# Altium schematic symbol library SW ROCKER.Schlib: 1 symbol
Pins are listed as number, name and electrical type; pins without a type are passive.

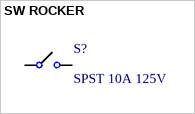
[diagram p0: symbol SW ROCKER]

## SW ROCKER
designator S?, comment SPST 10A 125V
Rocker Switch SPST 10A (AC) 125V Panel Mount, Snap-In
pins: 0, 1